# EAGLE library part BLA31AG221SN4D (library SamacSys_Parts)
Murata Power Solutions Ferrite Bead, 3.2 x 1.6 x 0.8mm (3216), 220 impedance at 100 MHz Source: Datasheet <https://componentsearchengine.com/Datasheets/1/BLA31AG221SN4D.pdf>
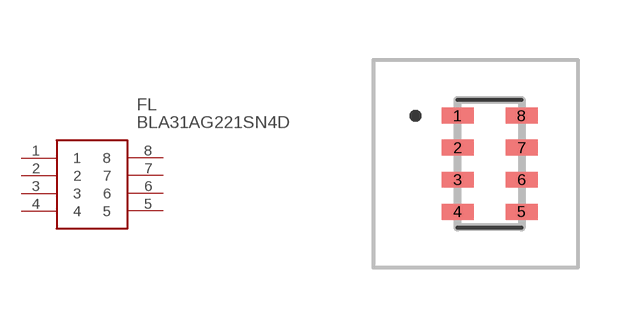
[diagram p2: symbol with the pads of BLA31AG102SN4D; footprint BLA31AG102SN4D]

Designator prefix FL

## BLA31AG221SN4D (DESCRIPTION: Murata Power Solutions Ferrite Bead, 3.2 x 1.6 x 0.8mm (3216), 220 impedance at 100 MHz; HEIGHT: 1mm; MANUFACTURER_NAME: Murata Electronics; MANUFACTURER_PART_NUMBER: BLA31AG221SN4D; MOUSER_PART_NUMBER: 81-BLA31AG221SN4D; MOUSER_PRICE-STOCK: https://www.mouser.com/Search/Refine.aspx?Keyword=81-BLA31AG221SN4D)  [BLA31AG102SN4D]
1  1
2  2
3  3
4  4
5  5
6  6
7  7
8  8

## Footprint BLA31AG102SN4D (pad centres in mm)
BLA31 L=3.2 W=1.6 T=0.8
smd 0.8 x 0.4: 1 -0.8,1.2; 2 -0.8,0.4; 3 -0.8,-0.4; 4 -0.8,-1.2; 5 0.8,-1.2; 6 0.8,-0.4; 7 0.8,0.4; 8 0.8,1.2